# Altium footprint library varistor.PCBLIB: 34 footprints (part 3 of 3)
Each footprint in its own frame and in the unit in brackets; x right, y up, seen from the top. Pads: shape width x height; smd on the part's side, far side on the other; paste and mask are expansions set on the pad; w line width, h text height; cw(c..) or ccw(c..) is an arc to the next point about the centre after c.
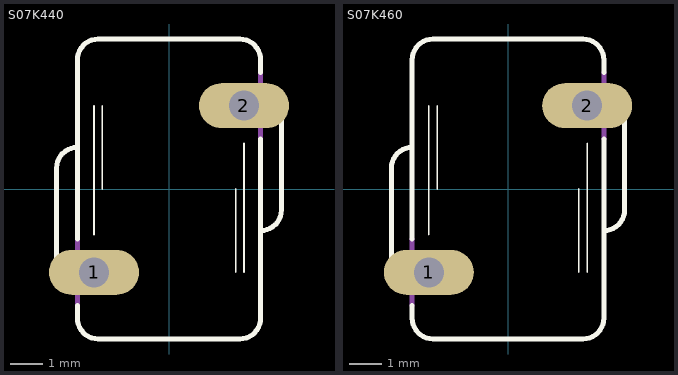
[diagram p2: the footprints below, top view; thin cyan lines are the x and y axes]

## S07K440 [mil]
pads (2):
  oval 108x54 hole 36: 1(-90,-100) 2(90,100)
Top Overlay:
  lines w2: -90,-55 -90,100 ; -80,0 -80,100 ; 80,-100 80,0 ; 90,-100 90,55
  lines w6: -135,-95 -135,25 cw(c-110,25) -110,50 ; -110,-140 -110,-155 ccw(c-85,-155) -85,-180 85,-180 ccw(c85,-155) 110,-155 110,60 ; -110,-60 -110,155 cw(c-85,155) -85,180 85,180 cw(c85,155) 110,155 110,140 ; 110,-50 ccw(c110,-25) 135,-25 135,95
Mechanical 16:
  lines w6: -135,-95 ccw(c-110,-95) -110,-120 ; -110,-140 -110,-120 ; -110,-60 -110,-120 ; 110,60 110,120 ; 110,140 110,120 ; 135,95 ccw(c110,95) 110,120

## S07K460 [mil]
pads (2):
  oval 108x54 hole 36: 1(-95,-100) 2(95,100)
Top Overlay:
  lines w2: -95,-55 -95,100 ; -85,0 -85,100 ; 85,-100 85,0 ; 95,-100 95,55
  lines w6: -140,-95 -140,25 cw(c-115,25) -115,50 ; -115,-140 -115,-155 ccw(c-90,-155) -90,-180 90,-180 ccw(c90,-155) 115,-155 115,60 ; -115,-60 -115,155 cw(c-90,155) -90,180 90,180 cw(c90,155) 115,155 115,140 ; 115,-50 ccw(c115,-25) 140,-25 140,95
Mechanical 16:
  lines w6: -140,-95 ccw(c-115,-95) -115,-120 ; -115,-140 -115,-120 ; -115,-60 -115,-120 ; 115,60 115,120 ; 115,140 115,120 ; 140,95 ccw(c115,95) 115,120